# Altium footprint library PCBlib-DESKTOP-1TMLCAS.PcbLib: 5 footprints
Each footprint in its own frame and in the unit in brackets; x right, y up, seen from the top. Pads: shape width x height; smd on the part's side, far side on the other; paste and mask are expansions set on the pad; w line width, h text height; cw(c..) or ccw(c..) is an arc to the next point about the centre after c.
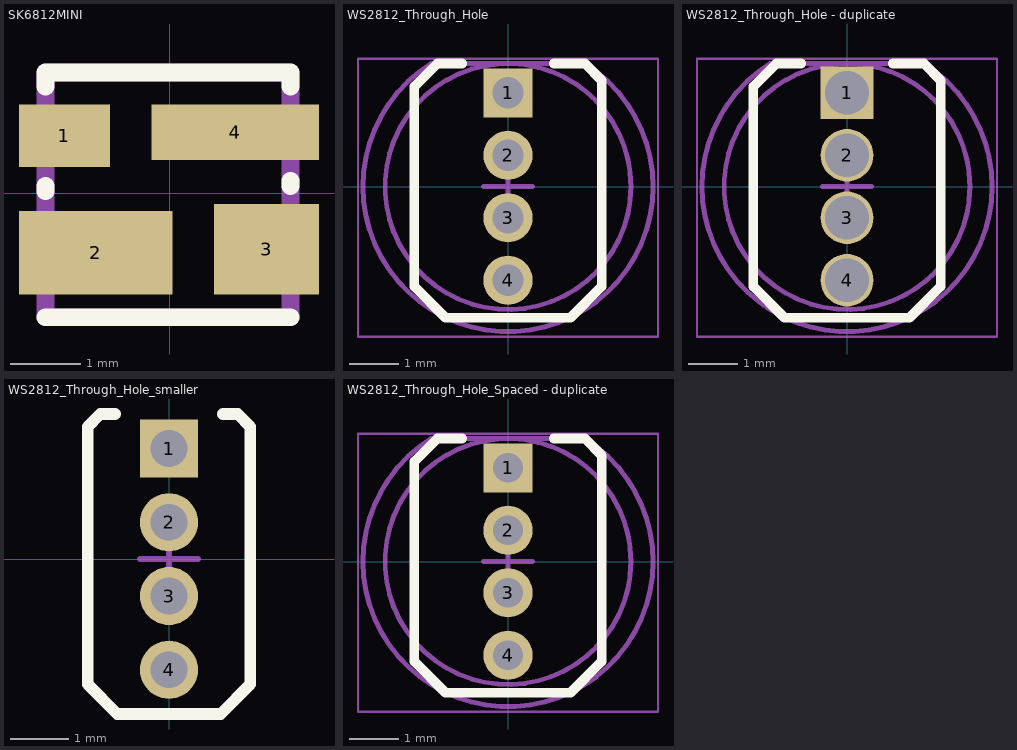
[diagram p0: the footprints below, top view; thin cyan lines are the x and y axes]

## SK6812MINI [mm] "SMD LED 3535"
pads (4):
  rect 1.3x0.9 smd: 1(-1.509,0.82)
  rect 2.2x1.2 smd: 2(-1.059,-0.854)
  rect 1.5x1.3 smd: 3(1.385,-0.804)
  rect 2.4x0.8 smd: 4(0.935,0.87)
Top Overlay:
  lines w0.254: -1.778,-1.778 1.727,-1.778 ; -1.778,0.025 -1.778,0.102 ; -1.778,1.524 -1.778,1.727 1.727,1.727 1.727,1.524 ; 1.727,0.102 1.727,0.178
Mechanical 15:
  lines w0.254: -1.778,-1.778 1.727,-1.778 1.727,1.727 -1.778,1.727 -1.778,-1.778
3D body "SK6812MINI-012.step": height 1.1, standoff 0, extent -1.85,-1.745 1.85,1.755

## WS2812_Through_Hole [mm] "THD, 4-Leads, Dia 5.9mm, Pitch 1.27mm"
pads (4):
  rect 1x1 hole 0.635 paste+0: 1(0,1.905)
  round 1 hole 0.635 paste+0: 2(0,0.635) 3(0,-0.635) 4(0,-1.905)
Top Overlay:
  lines w0.2: -0.93,2.5 -1.437,2.5 -1.905,2.032 -1.905,-2.032 -1.27,-2.667 1.27,-2.667 1.905,-2.032 1.905,2.161 1.566,2.5 ; 1.566,2.5 0.93,2.5 1.566,2.5
Mechanical 13:
  circle w0.1: c0,0 r2.5
  lines w0.1: -1.566,2.5 ccw(c0,0) 1.566,2.5 -1.566,2.5
Mechanical 15:
  lines w0.05: -3.05,-3.05 3.05,-3.05 3.05,2.6 -3.05,2.6 -3.05,-3.05
  lines w0.1: -0.5,0 0.5,0 ; 0,-0.5 0,0.5
3D body "WP154A4.STEP": height 8.6, standoff -24.5, extent -2.881,-3.077 3.019,2.373

## WS2812_Through_Hole - duplicate [mm] "THD, 4-Leads, Dia 5.9mm, Pitch 1.27mm"
pads (4):
  rect 1.07x1.07 hole 0.889 paste+0: 1(0,1.905)
  round 1.07 hole 0.889 paste+0: 2(0,0.635) 3(0,-0.635) 4(0,-1.905)
Top Overlay:
  lines w0.2: -0.93,2.5 -1.437,2.5 -1.905,2.032 -1.905,-2.032 -1.27,-2.667 1.27,-2.667 1.905,-2.032 1.905,2.161 1.566,2.5 ; 1.566,2.5 0.93,2.5 1.566,2.5
Mechanical 13:
  circle w0.1: c0,0 r2.5
  lines w0.1: -1.566,2.5 ccw(c0,0) 1.566,2.5 -1.566,2.5
Mechanical 15:
  lines w0.05: -3.05,-3.05 3.05,-3.05 3.05,2.6 -3.05,2.6 -3.05,-3.05
  lines w0.1: -0.5,0 0.5,0 ; 0,-0.5 0,0.5
3D body "WP154A4.STEP": height 8.6, standoff -24.5, extent -2.881,-3.077 3.019,2.373

## WS2812_Through_Hole_smaller [mm] "THD, 4-Leads, Dia 5.9mm, Pitch 1.27mm"
pads (4):
  rect 1x1 hole 0.635 paste+0: 1(0,1.905)
  round 1 hole 0.635 paste+0: 2(0,0.635) 3(0,-0.635) 4(0,-1.905)
Top Overlay:
  lines w0.2: -0.93,2.5 -1.183,2.5 -1.4,2.283 -1.4,-2.156 -0.889,-2.667 0.889,-2.667 1.4,-2.156 1.4,2.283 1.183,2.5 ; 1.183,2.5 0.93,2.5 1.183,2.5
Mechanical 15:
  lines w0.1: -0.5,0 0.5,0 ; 0,-0.5 0,0.5

## WS2812_Through_Hole_Spaced - duplicate [mm] "Connector; Header; 4 Position"
pads (4):
  rect 1x1 hole 0.6: 1(0,1.905)
  round 1 hole 0.6: 2(0,0.635) 3(0,-0.635) 4(0,-1.905)
Top Overlay:
  lines w0.2: -0.93,2.5 -1.437,2.5 -1.905,2.032 -1.905,-2.032 -1.27,-2.667 1.27,-2.667 1.905,-2.032 1.905,2.161 1.566,2.5 ; 1.566,2.5 0.93,2.5 1.566,2.5
Mechanical 13:
  circle w0.1: c0,0 r2.5
  lines w0.1: -1.566,2.5 ccw(c0,0) 1.566,2.5 -1.566,2.5
Mechanical 15:
  lines w0.05: -3.05,-3.05 3.05,-3.05 3.05,2.6 -3.05,2.6 -3.05,-3.05
  lines w0.1: -0.5,0 0.5,0 ; 0,-0.5 0,0.5
3D body "WP154A4.STEP": height 8.6, standoff -24.5, extent -2.881,-3.077 3.019,2.373